# EAGLE library part 737-506 (library con-wago_737)
Serie 737, Dreistock-Klemmenleiste für Leiterplatten 3 Lötstifte in Reihe / Series 737, Triple-deck PCB terminal strip 3 solder pins, in line Polzahl / Pole No.: 6 Rastermaß / Pitch: 7.5 mm Bemessungsspannung / Rated Voltage: 630 V Nennstrom / Nominal Current: 21 A Leiterquerschnitt / Conductor Size: 0.08 - 2.5 mm² Anschlusstechnik / Connection Technology: CAGE CLAMP® Lötstiftlänge: / Solder Pin Length: 4 mm Leitereinführung (zur Platine) / Conductor entry angle (to PCB): 45 ° Farbe / Color: grau / gray Stand: 01.01.2012. Die jeweils aktuellen Daten zu diesem Artikel finden Sie in unserem Produktkatalog, den Sie unter www.wago.com einsehen können. As of: 01/01/2012. Please find the newest data for this article in our product catalogue, which can be viewed under www.wago.com.
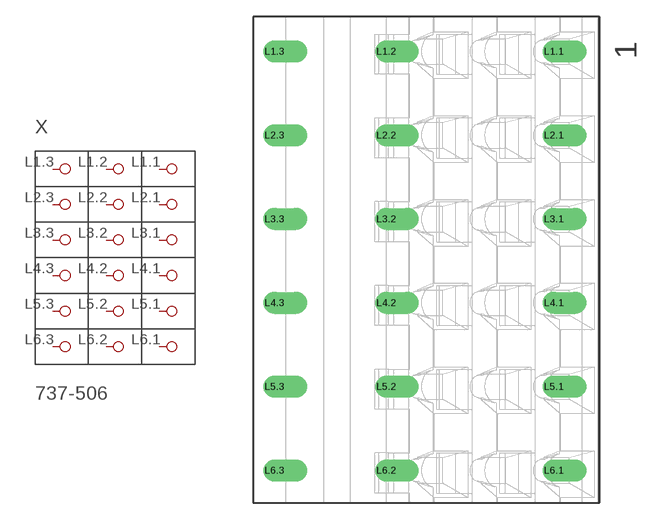
[diagram p19: symbol with the pads of P-737-506; footprint P-737-506]

Designator prefix X

## 737-506  [P-737-506]
L1.1  P1.1
L1.2  P1.2
L1.3  P1.3
L2.1  P2.1
L2.2  P2.2
L2.3  P2.3
L3.1  P3.1
L3.2  P3.2
L3.3  P3.3
L4.1  P4.1
L4.2  P4.2
L4.3  P4.3
L5.1  P5.1
L5.2  P5.2
L5.3  P5.3
L6.1  P6.1
L6.2  P6.2
L6.3  P6.3

## Footprint P-737-506 (pad centres in mm)
drill 1.3 offset: L1.1 11.4,18.65; L1.2 -3.6,18.65; L1.3 -13.6,18.65; L2.1 11.4,11.15; L2.2 -3.6,11.15; L2.3 -13.6,11.15; L3.1 11.4,3.65; L3.2 -3.6,3.65; L3.3 -13.6,3.65; L4.1 11.4,-3.85; L4.2 -3.6,-3.85; L4.3 -13.6,-3.85; L5.1 11.4,-11.35; L5.2 -3.6,-11.35; L5.3 -13.6,-11.35; L6.1 11.4,-18.85; L6.2 -3.6,-18.85; L6.3 -13.6,-18.85